# EAGLE library part OPTOCLEN-2 (library TABOR K1)
Optoclen 2x
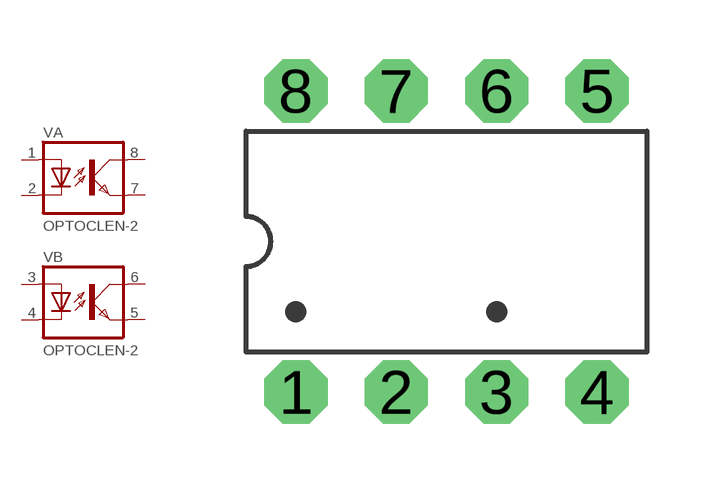
[diagram p2: symbol with the pads of DIL-08A; footprint DIL-08A]

Designator prefix V; gates A=OPTO-1 B=OPTO-1

## OPTOCLEN-2-PC827  [DIL-08A]
1  A:AD  pas
2  A:KD  pas
3  B:AD  pas
4  B:KD  pas
5  B:ET  pas
6  B:KT  pas
7  A:ET  pas
8  A:KT  pas

## Footprint DIL-08A (pad centres in mm)
Puzdro DIL 08A
drill 0.61 pad 1.6 octagon: 1 -3.81,-3.81; 2 -1.27,-3.81; 3 1.27,-3.81; 4 3.81,-3.81; 5 3.81,3.81; 6 1.27,3.81; 7 -1.27,3.81; 8 -3.81,3.81